# EAGLE library part LTC1540 (library ICs)
Analogue Comparator, Rail to Rail, General Purpose, 1 Comparator, 50 µs, ± 1V to ± 5.5V
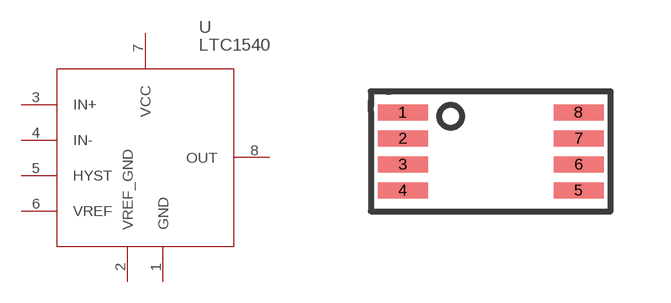
[diagram p180: symbol with the pads of MSOP8; footprint MSOP8]

Designator prefix U

## LTC1540CMS (FARNELL: 1663643; HEIGHT: 1; PRICE_PER: 2.28; VALUE: LTC1540)  [MSOP8]
1  GND
2  VREF_GND
3  IN+
4  IN-
5  HYST
6  VREF
7  VCC
8  OUT

## Footprint MSOP8 (pad centres in mm)
smd 1.25 x 0.4: 1 -2.2,0.975; 2 -2.2,0.325; 3 -2.2,-0.325; 4 -2.2,-0.975; 5 2.2,-0.975; 6 2.2,-0.325; 7 2.2,0.325; 8 2.2,0.975